# Altium footprint library ABM3-8P000MHZ-D2Y-T.PcbLib: 3 footprints
Each footprint in its own frame and in the unit in brackets; x right, y up, seen from the top. Pads: shape width x height; smd on the part's side, far side on the other; paste and mask are expansions set on the pad; w line width, h text height; cw(c..) or ccw(c..) is an arc to the next point about the centre after c.
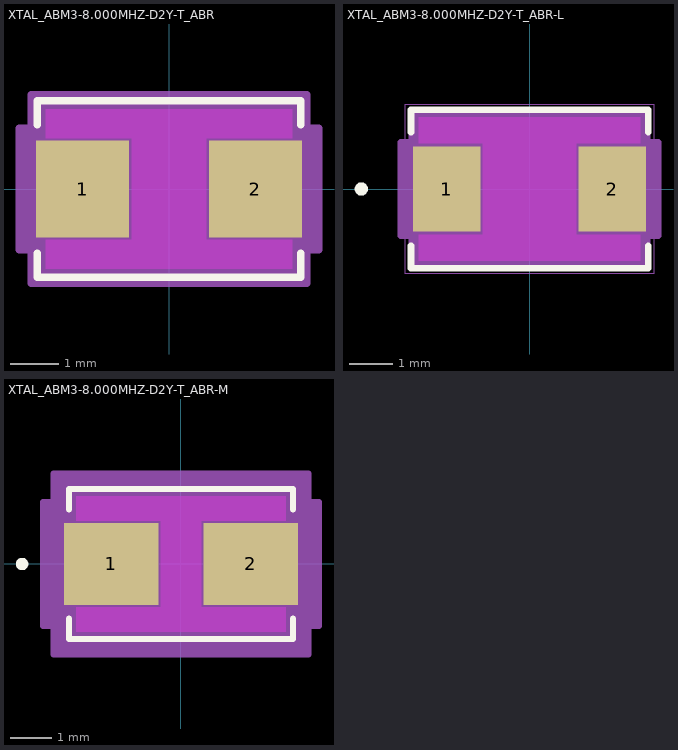
[diagram p0: the footprints below, top view; thin cyan lines are the x and y axes]

## XTAL_ABM3-8.000MHZ-D2Y-T_ABR [mil]
pads (2):
  rect 76x79 smd paste+0 mask+0: 1(-70.5,0) 2(70.5,0)
Top Layer keep-out:
  region: -30.5,-41.5 -30.5,41.5 30.5,41.5 30.5,-41.5
  region: -100.5,41.5 -100.5,65 100.5,65 100.5,41.5
  region: -100.5,-65 -100.5,-41.5 100.5,-41.5 100.5,-65
Top Overlay:
  lines w6: -107.5,-52.6 -107.5,-72 107.5,-72 107.5,-52.6 ; -107.5,52.6 -107.5,72 107.5,72 107.5,52.6
Keep-Out Layer:
  region: -30.5,-41.5 -30.5,41.5 30.5,41.5 30.5,-41.5
Mechanical 13:
  circle w0: c-82.5,0 r0
  lines w1: -112.5,-77 -112.5,77 112.5,77 112.5,-77 -112.5,-77 ; -102.5,-67 102.5,-67 102.5,67 -102.5,67 -102.5,-67
Mechanical 15:
  region: -112.5,-49.5 -122.5,-49.5 -122.5,49.5 -112.5,49.5 -112.5,77 112.5,77 112.5,49.5 122.5,49.5 122.5,-49.5 112.5,-49.5 112.5,-77 -112.5,-77
  lines w6: -122.5,-49.5 -122.5,49.5 -112.5,49.5 -112.5,77 112.5,77 112.5,49.5 122.5,49.5 122.5,-49.5 112.5,-49.5 112.5,-77 -112.5,-77 -112.5,-49.5 -122.5,-49.5
3D body "XTAL_ABM3-8000MHZ-D2Y-T_ABR.step": height 50.98, standoff 0, extent -112.76,-82.24 112.76,82.24

## XTAL_ABM3-8.000MHZ-D2Y-T_ABR-L [mil]
pads (2):
  rect 61x77 smd paste+0 mask+0: 1(-75,0) 2(75,0)
Top Layer keep-out:
  region: -42.5,-41.5 -42.5,41.5 42.5,41.5 42.5,-41.5
  region: -100.5,41.5 -100.5,65 100.5,65 100.5,41.5
  region: -100.5,-65 -100.5,-41.5 100.5,-41.5 100.5,-65
Top Overlay:
  circle w6: c-152.5,0 r3
  lines w6: -107.5,-51.45 -107.5,-72 107.5,-72 107.5,-51.45 ; -107.5,51.45 -107.5,72 107.5,72 107.5,51.45
Keep-Out Layer:
  region: -42.5,-41.5 -42.5,41.5 42.5,41.5 42.5,-41.5
Mechanical 13:
  circle w0: c-82.5,0 r3
  lines w1: -112.5,-77 -112.5,77 112.5,77 112.5,-77 -112.5,-77 ; -102.5,-67 102.5,-67 102.5,67 -102.5,67 -102.5,-67
Mechanical 15:
  region: -106.5,-42.5 -116.5,-42.5 -116.5,42.5 -106.5,42.5 -106.5,71 106.5,71 106.5,42.5 116.5,42.5 116.5,-42.5 106.5,-42.5 106.5,-71 -106.5,-71
  lines w6: -116.5,-42.5 -116.5,42.5 -106.5,42.5 -106.5,71 106.5,71 106.5,42.5 116.5,42.5 116.5,-42.5 106.5,-42.5 106.5,-71 -106.5,-71 -106.5,-42.5 -116.5,-42.5
3D body: height 10, standoff 0, extent 0,0 10,10

## XTAL_ABM3-8.000MHZ-D2Y-T_ABR-M [mil]
pads (2):
  rect 91x79 smd paste+0 mask+0: 1(-67,0) 2(67,0)
Top Layer keep-out:
  region: -19.5,-41.5 -19.5,41.5 19.5,41.5 19.5,-41.5
  region: -100.5,41.5 -100.5,65 100.5,65 100.5,41.5
  region: -100.5,-65 -100.5,-41.5 100.5,-41.5 100.5,-65
Top Overlay:
  circle w6: c-152.5,0 r3
  lines w6: -107.5,-52.6 -107.5,-72 107.5,-72 107.5,-52.6 ; -107.5,52.6 -107.5,72 107.5,72 107.5,52.6
Keep-Out Layer:
  region: -19.5,-41.5 -19.5,41.5 19.5,41.5 19.5,-41.5
Mechanical 13:
  circle w0: c-82.5,0 r3
  lines w1: -112.5,-77 -112.5,77 112.5,77 112.5,-77 -112.5,-77 ; -102.5,-67 102.5,-67 102.5,67 -102.5,67 -102.5,-67
Mechanical 15:
  region: -122.5,-59.5 -132.5,-59.5 -132.5,59.5 -122.5,59.5 -122.5,87 122.5,87 122.5,59.5 132.5,59.5 132.5,-59.5 122.5,-59.5 122.5,-87 -122.5,-87
  lines w6: -132.5,-59.5 -132.5,59.5 -122.5,59.5 -122.5,87 122.5,87 122.5,59.5 132.5,59.5 132.5,-59.5 122.5,-59.5 122.5,-87 -122.5,-87 -122.5,-59.5 -132.5,-59.5
3D body: height 10, standoff 0, extent 0,0 10,10